# EAGLE library part L1672D1JOOO (library LCD_L1672D1J000)
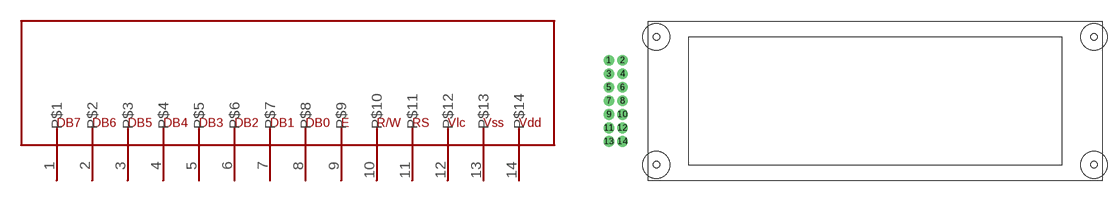
[diagram p0: symbol with the pads of Ｌ１６７２Ｄ１Ｊ０００; footprint Ｌ１６７２Ｄ１Ｊ０００]

Designator prefix -

## L1672D1JOOO  [Ｌ１６７２Ｄ１Ｊ０００]
1  P$1
2  P$2
3  P$3
4  P$4
5  P$5
6  P$6
7  P$7
8  P$8
9  P$9
10  P$10
11  P$11
12  P$12
13  P$13
14  P$14

## Footprint Ｌ１６７２Ｄ１Ｊ０００ (pad centres in mm)
drill 1 pad 2: 1 -41,7.62; 2 -38.46,7.62; 3 -41,5.08; 4 -38.46,5.08; 5 -41,2.54; 6 -38.46,2.54; 7 -41,0; 8 -38.46,0; 9 -41,-2.54; 10 -38.46,-2.54; 11 -41,-5.08; 12 -38.46,-5.08; 13 -41,-7.62; 14 -38.46,-7.62
hole 1.2 at -32.11,12
hole 1.2 at 49.89,12
hole 1.2 at 49.89,-12
hole 1.2 at -32.11,-12